# EAGLE library part D1503_PLASTRONICS (library acs)
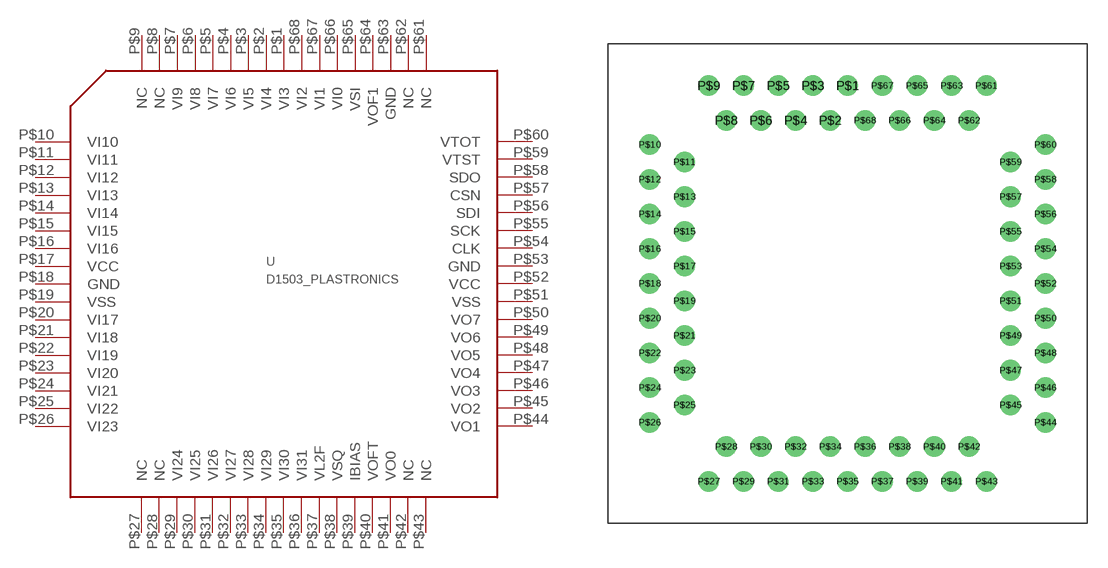
[diagram p3: symbol with the pads of LCC68_PLASTRONICS; footprint LCC68_PLASTRONICS]

Designator prefix -

## D1503_PLASTRONICS  [LCC68_PLASTRONICS]
P$1  VI3
P$2  VI4
P$3  VI5
P$4  VI6
P$5  VI7
P$6  VI8
P$7  VI9
P$8  NC
P$9  NC
P$10  VI10
P$11  VI11
P$12  VI12
P$13  VI13
P$14  VI14
P$15  VI15
P$16  VI16
P$17  VCC
P$18  GND
P$19  VSS
P$20  VI17
P$21  VI18
P$22  VI19
P$23  VI20
P$24  VI21
P$25  VI22
P$26  VI23
P$27  NC
P$28  NC
P$29  VI24
P$30  VI25
P$31  VI26
P$32  VI27
P$33  VI28
P$34  VI29
P$35  VI30
P$36  VI31
P$37  VL2F
P$38  VSQ
P$39  IBIAS
P$40  VOFT
P$41  VO0
P$42  NC
P$43  NC
P$44  VO1
P$45  VO2
P$46  VO3
P$47  VO4
P$48  VO5
P$49  VO6
P$50  VO7
P$51  VSS
P$52  VCC
P$53  GND
P$54  CLK
P$55  SCK
P$56  SDI
P$57  CSN
P$58  SDO
P$59  VTST
P$60  VTOT
P$61  NC
P$62  NC
P$63  GND
P$64  VOF1
P$65  VSI
P$66  VI0
P$67  VI1
P$68  VI2

## Footprint LCC68_PLASTRONICS (pad centres in mm)
drill 1: P$1 0,0; P$2 -1.27,-2.54; P$3 -2.54,0; P$4 -3.81,-2.54; P$5 -5.08,0; P$6 -6.35,-2.54; P$7 -7.62,0; P$8 -8.89,-2.54; P$9 -10.16,0; P$10 -14.478,-4.318; P$11 -11.938,-5.588; P$12 -14.478,-6.858; P$13 -11.938,-8.128; P$14 -14.478,-9.398; P$15 -11.938,-10.668; P$16 -14.478,-11.938; P$17 -11.938,-13.208; P$18 -14.478,-14.478; P$19 -11.938,-15.748; P$20 -14.478,-17.018; P$21 -11.938,-18.288; P$22 -14.478,-19.558; P$23 -11.938,-20.828; P$24 -14.478,-22.098; P$25 -11.938,-23.368; P$26 -14.478,-24.638; P$27 -10.16,-28.956; P$28 -8.89,-26.416; P$29 -7.62,-28.956; P$30 -6.35,-26.416; P$31 -5.08,-28.956; P$32 -3.81,-26.416; P$33 -2.54,-28.956; P$34 -1.27,-26.416; P$35 0,-28.956; P$36 1.27,-26.416; P$37 2.54,-28.956; P$38 3.81,-26.416; P$39 5.08,-28.956; P$40 6.35,-26.416; P$41 7.62,-28.956; P$42 8.89,-26.416; P$43 10.16,-28.956; P$44 14.478,-24.638; P$45 11.938,-23.368; P$46 14.478,-22.098; P$47 11.938,-20.828; P$48 14.478,-19.558; P$49 11.938,-18.288; P$50 14.478,-17.018; P$51 11.938,-15.748; P$52 14.478,-14.478; P$53 11.938,-13.208; P$54 14.478,-11.938; P$55 11.938,-10.668; P$56 14.478,-9.398; P$57 11.938,-8.128; P$58 14.478,-6.858; P$59 11.938,-5.588; P$60 14.478,-4.318; P$61 10.16,0; P$62 8.89,-2.54; P$63 7.62,0; P$64 6.35,-2.54; P$65 5.08,0; P$66 3.81,-2.54; P$67 2.54,0; P$68 1.27,-2.54